# EAGLE library part W25Q16BVSSIG (library W25Q16BVSSIG)
Flash, pin, soic, flash, Memory, Semiconductors and Actives, serial, ic Check prices <https://pricing.snapeda.com/parts/W25Q16BVSSIG/Winbond/view-part?ref=eda>
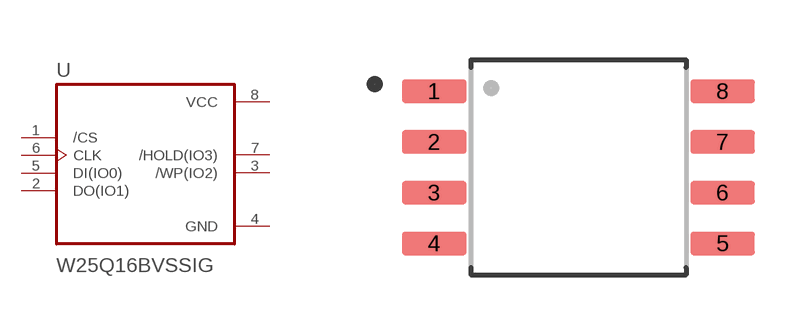
[diagram p0: symbol with the pads of SOIC127P790X216-8N; footprint SOIC127P790X216-8N]

Designator prefix U

## W25Q16BVSSIG (Availability: Bad; Description: FLASH - NOR Memory IC 16Mb (2M x 8) SPI - Quad I/O 104MHz 8-SOIC; MF: Winbond; MP: W25Q16BVSSIG; Package: SOIC-8 Winbond; Price: None)  [SOIC127P790X216-8N]
1  /CS  in
2  DO(IO1)
3  /WP(IO2)
4  GND  pwr
5  DI(IO0)
6  CLK  in
7  /HOLD(IO3)
8  VCC  pwr

## Footprint SOIC127P790X216-8N (pad centres in mm)
smd 1.61 x 0.58: 1 -3.605,1.905; 2 -3.605,0.635; 3 -3.605,-0.635; 4 -3.605,-1.905; 5 3.605,-1.905; 6 3.605,-0.635; 7 3.605,0.635; 8 3.605,1.905